# Altium footprint library 74HC.PcbLib: 3 footprints
Each footprint in its own frame and in the unit in brackets; x right, y up, seen from the top. Pads: shape width x height; smd on the part's side, far side on the other; paste and mask are expansions set on the pad; w line width, h text height; cw(c..) or ccw(c..) is an arc to the next point about the centre after c.
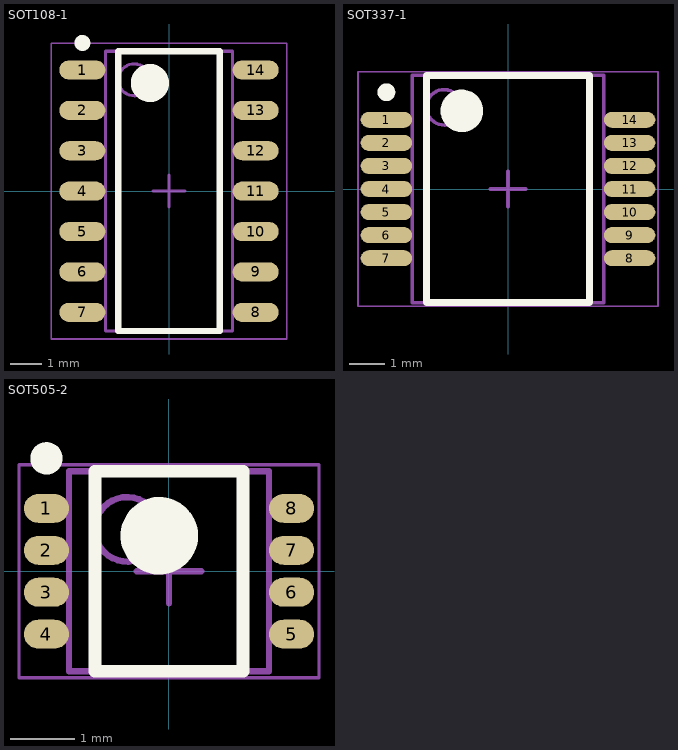
[diagram p0: the footprints below, top view; thin cyan lines are the x and y axes]

## SOT108-1 [mm] "Nexperia SOT108-1, SOP, 14-Leads, Body 8.65x3.90mm, Pitch 1.27mm"
height 1.75
pads (14):
  oval 1.45x0.6 smd: 1(-2.725,3.81) 2(-2.725,2.54) 3(-2.725,1.27) 4(-2.725,0) 5(-2.725,-1.27) 6(-2.725,-2.54) 7(-2.725,-3.81) 8(2.725,-3.81) 9(2.725,-2.54) 10(2.725,-1.27) 11(2.725,0) 12(2.725,1.27) 13(2.725,2.54) 14(2.725,3.81)
Top Overlay:
  circle w0.25: c-2.725,4.66 r0.125
  circle w0.6: c-0.6,3.4 r0.3
  lines w0.2: -1.6,-4.4 -1.6,4.4 1.6,4.4 1.6,-4.4 -1.6,-4.4
Mechanical 13:
  circle w0.1: c-1.1,3.5 r0.5
  lines w0.1: -2,-4.4 -2,4.4 2,4.4 2,-4.4 -2,-4.4
Mechanical 15:
  lines w0.05: -3.7,-4.65 -3.7,4.65 3.7,4.65 3.7,-4.65 -3.7,-4.65
  lines w0.1: -0.5,0 0.5,0 ; 0,-0.5 0,0.5
3D body "SOT108-1.step": height 1.75, standoff 0, extent -3,-4.4 3,4.4

## SOT337-1 [mm] "Nexperia SOT337-1, SOP, 14-Leads, Body 6.20x5.30mm, Pitch 0.65mm, IPC High Density"
height 2
pads (14):
  oval 1.45x0.45 smd: 1(-3.425,1.95) 2(-3.425,1.3) 3(-3.425,0.65) 4(-3.425,0) 5(-3.425,-0.65) 6(-3.425,-1.3) 7(-3.425,-1.95) 8(3.425,-1.95) 9(3.425,-1.3) 10(3.425,-0.65) 11(3.425,0) 12(3.425,0.65) 13(3.425,1.3) 14(3.425,1.95)
Top Overlay:
  circle w0.25: c-3.425,2.725 r0.125
  circle w0.6: c-1.3,2.2 r0.3
  lines w0.2: -2.3,-3.2 -2.3,3.2 2.3,3.2 2.3,-3.2 -2.3,-3.2
Mechanical 13:
  circle w0.1: c-1.8,2.3 r0.5
  lines w0.1: -2.7,-3.2 -2.7,3.2 2.7,3.2 2.7,-3.2 -2.7,-3.2
Mechanical 15:
  lines w0.05: -4.225,-3.3 -4.225,3.3 4.225,3.3 4.225,-3.3 -4.225,-3.3
  lines w0.1: -0.5,0 0.5,0 ; 0,-0.5 0,0.5
3D body "SOT337-1.step": height 2, standoff 0, extent -3.875,-3.2 3.875,3.2

## SOT505-2 [mm] "Nexperia STPT505-2, SOP, 8-Leads, Body 3.00x3.00mm, Pitch 0.65mm, IPC High Density"
height 1.1
pads (8):
  oval 0.7x0.45 smd: 1(-1.9,0.975) 2(-1.9,0.325) 3(-1.9,-0.325) 4(-1.9,-0.975) 5(1.9,-0.975) 6(1.9,-0.325) 7(1.9,0.325) 8(1.9,0.975)
Top Overlay:
  circle w0.25: c-1.9,1.75 r0.125
  circle w0.6: c-0.15,0.55 r0.3
  lines w0.2: -1.15,-1.55 -1.15,1.55 1.15,1.55 1.15,-1.55 -1.15,-1.55
Mechanical 13:
  circle w0.1: c-0.65,0.65 r0.5
  lines w0.1: -1.55,-1.55 -1.55,1.55 1.55,1.55 1.55,-1.55 -1.55,-1.55
Mechanical 15:
  lines w0.05: -2.325,-1.65 -2.325,1.65 2.325,1.65 2.325,-1.65 -2.325,-1.65
  lines w0.1: -0.5,0 0.5,0 ; 0,-0.5 0,0.5
3D body "SOT505-2.step": height 1.1, standoff 0, extent -1.993,-1.55 1.993,1.55